# EAGLE library part AD8232 (library Harrington-ICs v130)
Heart Rate (ECG) Monitor Analog Devices - Two or Three electrode configurations
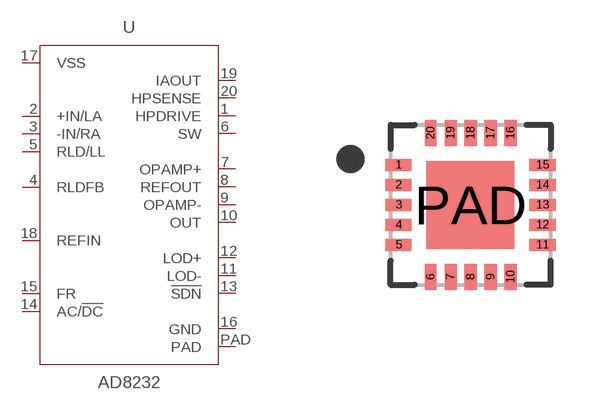
[diagram p14: symbol with the pads of LFCSP-20; footprint LFCSP-20]

Designator prefix U

## AD8232  [LFCSP-20]
1  HPDRIVE  out
2  +IN/LA  in
3  -IN/RA  in
4  RLDFB  in
5  RLD/LL  out
6  SW  in
7  OPAMP+  in
8  REFOUT  out
9  OPAMP-  in
10  OUT  out
11  LOD-  out
12  LOD+  out
13  !SDN  in
14  AC/!DC  in
15  FR  in
16  GND  pwr
17  VSS  pwr
18  REFIN  in
19  IAOUT  out
20  HPSENSE  in
PAD  PAD  pwr

## Footprint LFCSP-20 (pad centres in mm)
smd 0.65 x 0.3: 1 -1.8,1; 2 -1.8,0.5; 3 -1.8,0; 4 -1.8,-0.5; 5 -1.8,-1; 11 1.8,-1; 12 1.8,-0.5; 13 1.8,0; 14 1.8,0.5; 15 1.8,1
smd 0.3 x 0.65: 6 -1,-1.8; 7 -0.5,-1.8; 8 0,-1.8; 9 0.5,-1.8; 10 1,-1.8; 16 1,1.8; 17 0.5,1.8; 18 0,1.8; 19 -0.5,1.8; 20 -1,1.8
smd 2.2 x 2.2: PAD 0,0